# Altium schematic symbol library PTPSM63606RDLR.SchLib: 2 symbols
Pins are listed as number, name and electrical type; pins without a type are passive.

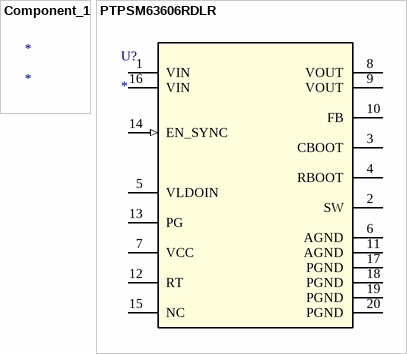
[diagram p0: symbols Component_1 to PTPSM63606RDLR]

## Component_1
designator *
footprint RDL0020A-MFG

## PTPSM63606RDLR
designator U?
No Description Available; Mfr_Name: Texas Instruments; TYPE: TYPE; RefDes: RefDes
footprint RDL0020A-MFG
pins: 1 VIN (power), 2 SW, 3 CBOOT, 4 RBOOT, 5 VLDOIN, 6 AGND (power), 7 VCC, 8 VOUT, 9 VOUT, 10 FB, 11 AGND (power), 12 RT, 13 PG (oc), 14 EN_SYNC (in), 15 NC, 16 VIN (power), 17 PGND (power), 18 PGND (power), 19 PGND (power), 20 PGND (power)